# Altium schematic symbol library LED_DOME_4LED.SchLib: 1 symbol
Pins are listed as number, name and electrical type; pins without a type are passive.

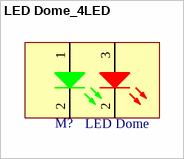
[diagram p0: symbol LED Dome_4LED]

## LED Dome_4LED
designator M?, comment LED Dome
LENS WHITE 170DEG DIFFUSER SNAP; Manufacturer: Khatod North America LLC; Manufacturer Part Number: PLJT20; Lens Style: Round with Domed Top; Lens Size: 23mm Dia; Lens Transparency: Diffused; Viewing Angle: 170°; Supplier 1: Digi-Key; RoHS: RoHS Compliant; Category: Optoelectronics; Stock 1: 241; Pricing 1: 1=3.32, 10=2.941, 50=2.1818, 100=1.8972, 250=1.70748 (USD); Part Status: Active; Type: Lens; Color: White; Optical Pattern: Diffuser; For Use With/Related Manufacturer: -; Material: Polycarbonate; Mounting Type: Snap In; ComponentLink1URL: http://download.khatod.com/documents/pljt20_test_report.pdf; ComponentLink1Description: http://download.khatod.com/documents/pljt20_test_report.pdf; Supplier Part Number 1: 1621-1053-ND
footprint LED_Dome_4LED
pins: 1, 2, 2, 3